# Altium footprint library Connector - FFC_FPC.PcbLib: 57 footprints (part 3 of 4)
Each footprint in its own frame and in the unit in brackets; x right, y up, seen from the top. Pads: shape width x height; smd on the part's side, far side on the other; paste and mask are expansions set on the pad; w line width, h text height; cw(c..) or ccw(c..) is an arc to the next point about the centre after c.
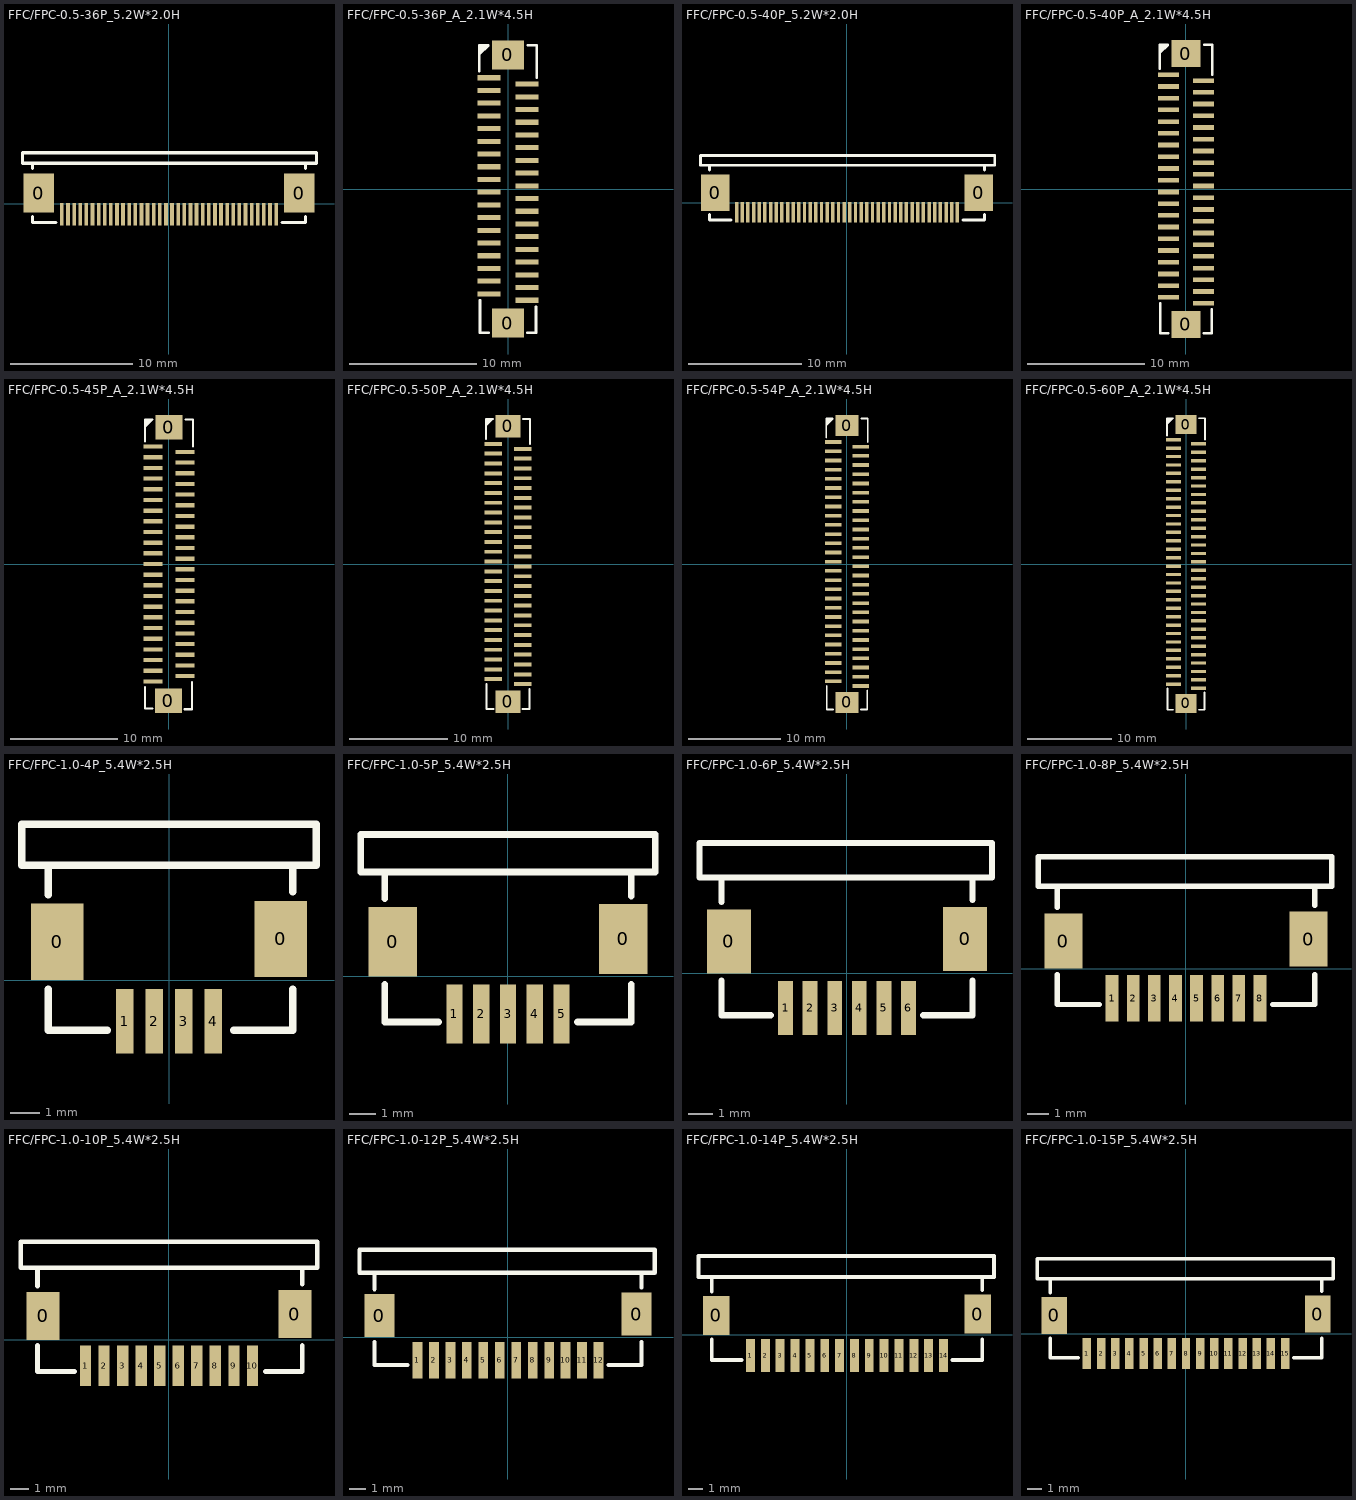
[diagram p2: the footprints below, top view; thin cyan lines are the x and y axes]

## FFC/FPC-0.5-36P_5.2W*2.0H [mm]
pads (38):
  rect 2.5x3.2 smd: 0(-10.65,0.863) 0(10.65,0.863)
  rect 0.3x1.8 smd: 1(-8.75,-0.863) 2(-8.25,-0.863) 3(-7.75,-0.863) 4(-7.25,-0.863) 5(-6.75,-0.863) 6(-6.25,-0.863) 7(-5.75,-0.863) 8(-5.25,-0.863) 9(-4.75,-0.863) 10(-4.25,-0.863) 11(-3.75,-0.863) 12(-3.25,-0.863) 13(-2.75,-0.863) 14(-2.25,-0.863) 15(-1.75,-0.863) 16(-1.25,-0.863) 17(-0.75,-0.863) 18(-0.25,-0.863) 19(0.25,-0.863) 20(0.75,-0.863) 21(1.25,-0.863) 22(1.75,-0.863) 23(2.25,-0.863) 24(2.75,-0.863) 25(3.25,-0.863) 26(3.75,-0.863) 27(4.25,-0.863) 28(4.75,-0.863) 29(5.25,-0.863) 30(5.75,-0.863) 31(6.25,-0.863) 32(6.75,-0.863) 33(7.25,-0.863) 34(7.75,-0.863) 35(8.25,-0.863) 36(8.75,-0.863)
Top Overlay:
  lines w0.254: -11.15,-1.037 -11.15,-1.538 -9.25,-1.538 ; -11.15,2.863 -11.15,3.303 ; 9.25,-1.538 11.15,-1.538 11.15,-1.037 ; 11.15,2.863 11.15,3.303 12.05,3.303 ; 12.05,3.303 -11.95,3.303 -11.95,4.163 12.05,4.163 12.05,3.303

## FFC/FPC-0.5-36P_A_2.1W*4.5H [mm]
pads (38):
  rect 2.5x2.3 smd: 0(0,-10.55) 0(0,10.55)
  rect 1.8x0.4 smd: 1(-1.5,8.75) 2(1.5,8.25) 3(-1.5,7.75) 4(1.5,7.25) 5(-1.5,6.75) 6(1.5,6.25) 7(-1.5,5.75) 8(1.5,5.25) 9(-1.5,4.75) 10(1.5,4.25) 11(-1.5,3.75) 12(1.5,3.25) 13(-1.5,2.75) 14(1.5,2.25) 15(-1.5,1.75) 16(1.5,1.25) 17(-1.5,0.75) 18(1.5,0.25) 19(-1.5,-0.25) 20(1.5,-0.75) 21(-1.5,-1.25) 22(1.5,-1.75) 23(-1.5,-2.25) 24(1.5,-2.75) 25(-1.5,-3.25) 26(1.5,-3.75) 27(-1.5,-4.25) 28(1.5,-4.75) 29(-1.5,-5.25) 30(1.5,-5.75) 31(-1.5,-6.25) 32(1.5,-6.75) 33(-1.5,-7.25) 34(1.5,-7.75) 35(-1.5,-8.25) 36(1.5,-8.75)
Top Overlay:
  region: -2.25,11.3 -1.55,11.3 -2.25,10.6
  lines w0.203: -2.25,9.25 -2.25,11.3 -1.55,11.3 ; -2.25,10.6 -1.55,11.3 ; -2.2,-8.75 -2.2,-11.3 -1.5,-11.3 ; 1.5,-11.3 2.2,-11.3 2.2,-9.25 ; 1.55,11.3 2.25,11.3 2.25,8.75 ; -1.55,11.3 -1.55,11.3

## FFC/FPC-0.5-40P_5.2W*2.0H [mm]
pads (42):
  rect 2.5x3.2 smd: 0(-11.65,0.863) 0(11.65,0.863)
  rect 0.3x1.8 smd: 1(-9.75,-0.862) 2(-9.25,-0.862) 3(-8.75,-0.862) 4(-8.25,-0.862) 5(-7.75,-0.862) 6(-7.25,-0.862) 7(-6.75,-0.862) 8(-6.25,-0.862) 9(-5.75,-0.862) 10(-5.25,-0.862) 11(-4.75,-0.862) 12(-4.25,-0.862) 13(-3.75,-0.862) 14(-3.25,-0.862) 15(-2.75,-0.862) 16(-2.25,-0.862) 17(-1.75,-0.862) 18(-1.25,-0.862) 19(-0.75,-0.862) 20(-0.25,-0.862) 21(0.25,-0.862) 22(0.75,-0.862) 23(1.25,-0.862) 24(1.75,-0.862) 25(2.25,-0.862) 26(2.75,-0.862) 27(3.25,-0.862) 28(3.75,-0.862) 29(4.25,-0.862) 30(4.75,-0.862) 31(5.25,-0.862) 32(5.75,-0.862) 33(6.25,-0.862) 34(6.75,-0.862) 35(7.25,-0.862) 36(7.75,-0.862) 37(8.25,-0.862) 38(8.75,-0.862) 39(9.25,-0.862) 40(9.75,-0.862)
Top Overlay:
  lines w0.254: -12.15,-1.037 -12.15,-1.537 -10.25,-1.537 ; -12.15,2.863 -12.15,3.303 ; 10.25,-1.537 12.15,-1.537 12.15,-1.037 ; 12.15,2.863 12.15,3.303 ; 12.15,3.303 -12.95,3.303 -12.95,4.163 13.05,4.163 13.05,3.303 12.15,3.303

## FFC/FPC-0.5-40P_A_2.1W*4.5H [mm]
pads (42):
  rect 2.5x2.3 smd: 0(0,-11.55) 0(0,11.55)
  rect 1.8x0.4 smd: 1(-1.5,9.75) 2(1.5,9.25) 3(-1.5,8.75) 4(1.5,8.25) 5(-1.5,7.75) 6(1.5,7.25) 7(-1.5,6.75) 8(1.5,6.25) 9(-1.5,5.75) 10(1.5,5.25) 11(-1.5,4.75) 12(1.5,4.25) 13(-1.5,3.75) 14(1.5,3.25) 15(-1.5,2.75) 16(1.5,2.25) 17(-1.5,1.75) 18(1.5,1.25) 19(-1.5,0.75) 20(1.5,0.25) 21(-1.5,-0.25) 22(1.5,-0.75) 23(-1.5,-1.25) 24(1.5,-1.75) 25(-1.5,-2.25) 26(1.5,-2.75) 27(-1.5,-3.25) 28(1.5,-3.75) 29(-1.5,-4.25) 30(1.5,-4.75) 31(-1.5,-5.25) 32(1.5,-5.75) 33(-1.5,-6.25) 34(1.5,-6.75) 35(-1.5,-7.25) 36(1.5,-7.75) 37(-1.5,-8.25) 38(1.5,-8.75) 39(-1.5,-9.25) 40(1.5,-9.75)
Top Overlay:
  region: -2.25,12.3 -1.55,12.3 -2.25,11.6
  lines w0.203: -2.25,10.25 -2.25,12.3 -1.55,12.3 ; -2.25,11.6 -1.55,12.3 ; -2.2,-9.75 -2.2,-12.3 -1.5,-12.3 ; 1.5,-12.3 2.2,-12.3 2.2,-10.25 ; 1.55,12.3 2.25,12.3 2.25,9.75 ; -1.55,12.3 -1.55,12.3

## FFC/FPC-0.5-45P_A_2.1W*4.5H [mm]
pads (47):
  rect 2.5x2.3 smd: 0(-0.05,-12.8) 0(0,12.8)
  rect 1.8x0.4 smd: 1(-1.5,11) 2(1.5,10.5) 3(-1.5,10) 4(1.5,9.5) 5(-1.5,9) 6(1.5,8.5) 7(-1.5,8) 8(1.5,7.5) 9(-1.5,7) 10(1.5,6.5) 11(-1.5,6) 12(1.5,5.5) 13(-1.5,5) 14(1.5,4.5) 15(-1.5,4) 16(1.5,3.5) 17(-1.5,3) 18(1.5,2.5) 19(-1.5,2) 20(1.5,1.5) 21(-1.5,1) 22(1.5,0.5) 23(-1.5,0) 24(1.5,-0.5) 25(-1.5,-1) 26(1.5,-1.5) 27(-1.5,-2) 28(1.5,-2.5) 29(-1.5,-3) 30(1.5,-3.5) 31(-1.5,-4) 32(1.5,-4.5) 33(-1.5,-5) 34(1.5,-5.5) 35(-1.5,-6) 36(1.5,-6.5) 37(-1.5,-7) 38(1.5,-7.5) 39(-1.5,-8) 40(1.5,-8.5) 41(-1.5,-9) 42(1.5,-9.5) 43(-1.5,-10) 44(1.5,-10.5) 45(-1.5,-11)
Top Overlay:
  region: -2.25,13.55 -1.55,13.55 -2.25,12.85
  lines w0.203: -2.25,-11.55 -2.25,-13.55 -1.55,-13.55 ; -2.25,11.5 -2.25,13.55 -1.55,13.55 ; -2.25,12.85 -1.55,13.55 ; 1.45,-13.6 2.15,-13.6 2.15,-11.05 ; 1.55,13.55 2.25,13.55 2.25,11 ; -1.55,13.55 -1.55,13.55

## FFC/FPC-0.5-50P_A_2.1W*4.5H [mm]
pads (52):
  rect 2.5x2.3 smd: 0(0,-14.05) 0(0,14.05)
  rect 1.8x0.4 smd: 1(-1.5,12.25) 2(1.5,11.75) 3(-1.5,11.25) 4(1.5,10.75) 5(-1.5,10.25) 6(1.5,9.75) 7(-1.5,9.25) 8(1.5,8.75) 9(-1.5,8.25) 10(1.5,7.75) 11(-1.5,7.25) 12(1.5,6.75) 13(-1.5,6.25) 14(1.5,5.75) 15(-1.5,5.25) 16(1.5,4.75) 17(-1.5,4.25) 18(1.5,3.75) 19(-1.5,3.25) 20(1.5,2.75) 21(-1.5,2.25) 22(1.5,1.75) 23(-1.5,1.25) 24(1.5,0.75) 25(-1.5,0.25) 26(1.5,-0.25) 27(-1.5,-0.75) 28(1.5,-1.25) 29(-1.5,-1.75) 30(1.5,-2.25) 31(-1.5,-2.75) 32(1.5,-3.25) 33(-1.5,-3.75) 34(1.5,-4.25) 35(-1.5,-4.75) 36(1.5,-5.25) 37(-1.5,-5.75) 38(1.5,-6.25) 39(-1.5,-6.75) 40(1.5,-7.25) 41(-1.5,-7.75) 42(1.5,-8.25) 43(-1.5,-8.75) 44(1.5,-9.25) 45(-1.5,-9.75) 46(1.5,-10.25) 47(-1.5,-10.75) 48(1.5,-11.25) 49(-1.5,-11.75) 50(1.5,-12.25)
Top Overlay:
  region: -2.25,14.8 -1.55,14.8 -2.25,14.1
  lines w0.203: -2.25,12.75 -2.25,14.8 -1.55,14.8 ; -2.25,14.1 -1.55,14.8 ; -2.2,-12.25 -2.2,-14.8 -1.5,-14.8 ; 1.5,-14.8 2.2,-14.8 2.2,-12.75 ; 1.55,14.8 2.25,14.8 2.25,12.25 ; -1.55,14.8 -1.55,14.8

## FFC/FPC-0.5-54P_A_2.1W*4.5H [mm]
pads (56):
  rect 2.5x2.3 smd: 0(0,-15.05) 0(0,15.05)
  rect 1.8x0.4 smd: 1(-1.5,13.25) 2(1.5,12.75) 3(-1.5,12.25) 4(1.5,11.75) 5(-1.5,11.25) 6(1.5,10.75) 7(-1.5,10.25) 8(1.5,9.75) 9(-1.5,9.25) 10(1.5,8.75) 11(-1.5,8.25) 12(1.5,7.75) 13(-1.5,7.25) 14(1.5,6.75) 15(-1.5,6.25) 16(1.5,5.75) 17(-1.5,5.25) 18(1.5,4.75) 19(-1.5,4.25) 20(1.5,3.75) 21(-1.5,3.25) 22(1.5,2.75) 23(-1.5,2.25) 24(1.5,1.75) 25(-1.5,1.25) 26(1.5,0.75) 27(-1.5,0.25) 28(1.5,-0.25) 29(-1.5,-0.75) 30(1.5,-1.25) 31(-1.5,-1.75) 32(1.5,-2.25) 33(-1.5,-2.75) 34(1.5,-3.25) 35(-1.5,-3.75) 36(1.5,-4.25) 37(-1.5,-4.75) 38(1.5,-5.25) 39(-1.5,-5.75) 40(1.5,-6.25) 41(-1.5,-6.75) 42(1.5,-7.25) 43(-1.5,-7.75) 44(1.5,-8.25) 45(-1.5,-8.75) 46(1.5,-9.25) 47(-1.5,-9.75) 48(1.5,-10.25) 49(-1.5,-10.75) 50(1.5,-11.25) 51(-1.5,-11.75) 52(1.5,-12.25) 53(-1.5,-12.75) 54(1.5,-13.25)
Top Overlay:
  region: -2.25,15.8 -1.55,15.8 -2.25,15.1
  lines w0.203: -2.25,13.75 -2.25,15.8 -1.55,15.8 ; -2.25,15.1 -1.55,15.8 ; -2.2,-13.25 -2.2,-15.8 -1.5,-15.8 ; 1.5,-15.8 2.2,-15.8 2.2,-13.75 ; 1.55,15.8 2.25,15.8 2.25,13.25 ; -1.55,15.8 -1.55,15.8

## FFC/FPC-0.5-60P_A_2.1W*4.5H [mm]
pads (62):
  rect 2.5x2.3 smd: 0(0,-16.55) 0(0,16.55)
  rect 1.8x0.4 smd: 1(-1.5,14.75) 2(1.5,14.25) 3(-1.5,13.75) 4(1.5,13.25) 5(-1.5,12.75) 6(1.5,12.25) 7(-1.5,11.75) 8(1.5,11.25) 9(-1.5,10.75) 10(1.5,10.25) 11(-1.5,9.75) 12(1.5,9.25) 13(-1.5,8.75) 14(1.5,8.25) 15(-1.5,7.75) 16(1.5,7.25) 17(-1.5,6.75) 18(1.5,6.25) 19(-1.5,5.75) 20(1.5,5.25) 21(-1.5,4.75) 22(1.5,4.25) 23(-1.5,3.75) 24(1.5,3.25) 25(-1.5,2.75) 26(1.5,2.25) 27(-1.5,1.75) 28(1.5,1.25) 29(-1.5,0.75) 30(1.5,0.25) 31(-1.5,-0.25) 32(1.5,-0.75) 33(-1.5,-1.25) 34(1.5,-1.75) 35(-1.5,-2.25) 36(1.5,-2.75) 37(-1.5,-3.25) 38(1.5,-3.75) 39(-1.5,-4.25) 40(1.5,-4.75) 41(-1.5,-5.25) 42(1.5,-5.75) 43(-1.5,-6.25) 44(1.5,-6.75) 45(-1.5,-7.25) 46(1.5,-7.75) 47(-1.5,-8.25) 48(1.5,-8.75) 49(-1.5,-9.25) 50(1.5,-9.75) 51(-1.5,-10.25) 52(1.5,-10.75) 53(-1.5,-11.25) 54(1.5,-11.75) 55(-1.5,-12.25) 56(1.5,-12.75) 57(-1.5,-13.25) 58(1.5,-13.75) 59(-1.5,-14.25) 60(1.5,-14.75)
Top Overlay:
  region: -2.25,17.3 -1.55,17.3 -2.25,16.6
  lines w0.203: -2.25,15.25 -2.25,17.3 -1.55,17.3 ; -2.25,16.6 -1.55,17.3 ; -2.2,-14.75 -2.2,-17.3 -1.5,-17.3 ; 1.5,-17.3 2.2,-17.3 2.2,-15.25 ; 1.55,17.3 2.25,17.3 2.25,14.75 ; -1.55,17.3 -1.55,17.3

## FFC/FPC-1.0-4P_5.4W*2.5H [mm]
pads (6):
  rect 1.8x2.6 smd: 0(-3.8,1.3) 0(3.8,1.4)
  rect 0.6x2.2 smd: 1(-1.5,-1.4) 2(-0.5,-1.4) 3(0.5,-1.4) 4(1.5,-1.4)
Top Overlay:
  lines w0.254: -4.1,-0.3 -4.1,-1.7 -2.1,-1.7 ; -4.1,2.9 -4.1,3.9 ; 2.2,-1.7 4.2,-1.7 4.2,-0.3 ; 4.2,3 4.2,3.9 ; -4.1,3.9 4.1,3.9 5,3.9 5,5.3 2.8,5.3 -2.7,5.3 -5,5.3 -5,3.9 -4.1,3.9
3D body "User Library-FPC1MM2_63H4P.step": height 2.7, standoff 0, extent -4.9,-1.3 4.9,5.2

## FFC/FPC-1.0-5P_5.4W*2.5H [mm]
pads (7):
  rect 1.8x2.6 smd: 0(-4.3,1.3) 0(4.3,1.4)
  rect 0.6x2.2 smd: 1(-2,-1.4) 2(-1,-1.4) 3(0,-1.4) 5(2,-1.4)
  rect 0.6x2.2 smd mask+0.102: 4(1,-1.4)
Top Overlay:
  lines w0.254: -4.6,-0.3 -4.6,-1.7 -2.6,-1.7 ; -4.6,2.9 -4.6,3.9 ; 2.6,-1.7 4.6,-1.7 4.6,-0.3 ; 4.6,3 4.6,3.9 ; -4.6,3.9 3.6,3.9 5.5,3.9 5.5,5.3 2.3,5.3 -3.2,5.3 -5.5,5.3 -5.5,3.9 -4.6,3.9

## FFC/FPC-1.0-6P_5.4W*2.5H [mm]
pads (8):
  rect 1.8x2.6 smd: 0(-4.8,1.3) 0(4.8,1.4)
  rect 0.6x2.2 smd: 1(-2.5,-1.4) 2(-1.5,-1.4) 3(-0.5,-1.4) 4(0.5,-1.4) 5(1.5,-1.4) 6(2.5,-1.4)
Top Overlay:
  lines w0.254: -5.1,-0.3 -5.1,-1.7 -3.1,-1.7 ; -5.1,2.9 -5.1,3.9 ; 3.1,-1.7 5.1,-1.7 5.1,-0.3 ; 5.1,3 5.1,3.9 ; -5.1,3.9 -6,3.9 -6,5.3 -3.7,5.3 1.8,5.3 5.9,5.3 5.9,3.9 3.1,3.9 -5.1,3.9

## FFC/FPC-1.0-8P_5.4W*2.5H [mm]
pads (10):
  rect 1.8x2.6 smd: 0(-5.8,1.3) 0(5.8,1.4)
  rect 0.6x2.2 smd: 1(-3.5,-1.4) 2(-2.5,-1.4) 3(-1.5,-1.4) 4(-0.5,-1.4) 5(0.5,-1.4) 6(1.5,-1.4) 7(2.5,-1.4) 8(3.5,-1.4)
Top Overlay:
  lines w0.254: -6.1,-0.3 -6.1,-1.7 -4.1,-1.7 ; -6.1,2.9 -6.1,3.9 ; 4.1,-1.7 6.1,-1.7 6.1,-0.3 ; 6.1,3 6.1,3.9 ; -6.1,3.9 -7,3.9 -7,5.3 -4.7,5.3 0.8,5.3 6.9,5.3 6.9,3.9 2.1,3.9 -6.1,3.9

## FFC/FPC-1.0-10P_5.4W*2.5H [mm]
pads (12):
  rect 1.8x2.6 smd: 0(-6.8,1.3) 0(6.8,1.4)
  rect 0.6x2.2 smd: 1(-4.5,-1.4) 2(-3.5,-1.4) 3(-2.5,-1.4) 4(-1.5,-1.4) 5(-0.5,-1.4) 6(0.5,-1.4) 7(1.5,-1.4) 8(2.5,-1.4) 9(3.5,-1.4) 10(4.5,-1.4)
Top Overlay:
  lines w0.254: -7.1,-0.3 -7.1,-1.7 -5.1,-1.7 ; -7.1,2.9 -7.1,3.9 ; 5.2,-1.7 7.2,-1.7 7.2,-0.3 ; 7.2,3 7.2,3.9 ; -7.1,3.9 -8,3.9 -8,5.3 -5.7,5.3 -0.2,5.3 8,5.3 8,3.9 1.1,3.9 -7.1,3.9

## FFC/FPC-1.0-12P_5.4W*2.5H [mm]
pads (14):
  rect 1.8x2.6 smd: 0(-7.8,1.3) 0(7.8,1.4)
  rect 0.6x2.2 smd: 1(-5.5,-1.4) 2(-4.5,-1.4) 3(-3.5,-1.4) 4(-2.5,-1.4) 5(-1.5,-1.4) 6(-0.5,-1.4) 7(0.5,-1.4) 8(1.5,-1.4) 9(2.5,-1.4) 10(3.5,-1.4) 11(4.5,-1.4) 12(5.5,-1.4)
Top Overlay:
  lines w0.254: -8.1,-0.3 -8.1,-1.7 -6.1,-1.7 ; -8.1,2.9 -8.1,3.9 ; 6.1,-1.7 8.1,-1.7 8.1,-0.3 ; 8.1,3 8.1,3.9 ; -8.1,3.9 0.1,3.9 8.9,3.9 8.9,5.3 -1.2,5.3 -6.7,5.3 -9,5.3 -9,3.9 -8.1,3.9

## FFC/FPC-1.0-14P_5.4W*2.5H [mm]
pads (16):
  rect 1.8x2.6 smd: 0(-8.8,1.3) 0(8.8,1.4)
  rect 0.6x2.2 smd: 1(-6.5,-1.4) 2(-5.5,-1.4) 3(-4.5,-1.4) 4(-3.5,-1.4) 5(-2.5,-1.4) 6(-1.5,-1.4) 7(-0.5,-1.4) 8(0.5,-1.4) 9(1.5,-1.4) 10(2.5,-1.4) 11(3.5,-1.4) 12(4.5,-1.4) 13(5.5,-1.4) 14(6.5,-1.4)
Top Overlay:
  lines w0.254: -9.1,-0.3 -9.1,-1.7 -7.1,-1.7 ; -9.1,2.9 -9.1,3.9 ; 7.1,-1.7 9.1,-1.7 9.1,-0.3 ; 9.1,3 9.1,3.9 ; -9.1,3.9 -0.9,3.9 9.9,3.9 9.9,5.3 -2.2,5.3 -7.7,5.3 -10,5.3 -10,3.9 -9.1,3.9

## FFC/FPC-1.0-15P_5.4W*2.5H [mm]
pads (17):
  rect 1.8x2.6 smd: 0(-9.3,1.3) 0(9.3,1.4)
  rect 0.6x2.2 smd: 1(-7,-1.4) 2(-6,-1.4) 3(-5,-1.4) 4(-4,-1.4) 5(-3,-1.4) 6(-2,-1.4) 7(-1,-1.4) 8(0,-1.4) 9(1,-1.4) 10(2,-1.4) 11(3,-1.4) 12(4,-1.4) 13(5,-1.4) 14(6,-1.4) 15(7,-1.4)
Top Overlay:
  lines w0.254: -9.6,-0.3 -9.6,-1.7 -7.6,-1.7 ; -9.6,2.9 -9.6,3.9 ; 7.6,-1.7 9.6,-1.7 9.6,-0.3 ; 9.6,3 9.6,3.9 ; -9.6,3.9 -10.5,3.9 -10.5,5.3 -8.2,5.3 -2.7,5.3 10.4,5.3 10.4,3.9 -1.4,3.9 -9.6,3.9